# Altium schematic symbol library PnueLib.SchLib: 1 symbol
Pins are listed as number, name and electrical type; pins without a type are passive.

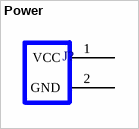
[diagram p0: symbol Power]

## Power
designator J?  (value not drawn)
footprint PowerConnector
pins: 1 VCC, 2 GND